# Altium footprint library 接插件.PCBLIB: 113 footprints (part 2 of 8)
Each footprint in its own frame and in the unit in brackets; x right, y up, seen from the top. Pads: shape width x height; smd on the part's side, far side on the other; paste and mask are expansions set on the pad; w line width, h text height; cw(c..) or ccw(c..) is an arc to the next point about the centre after c.
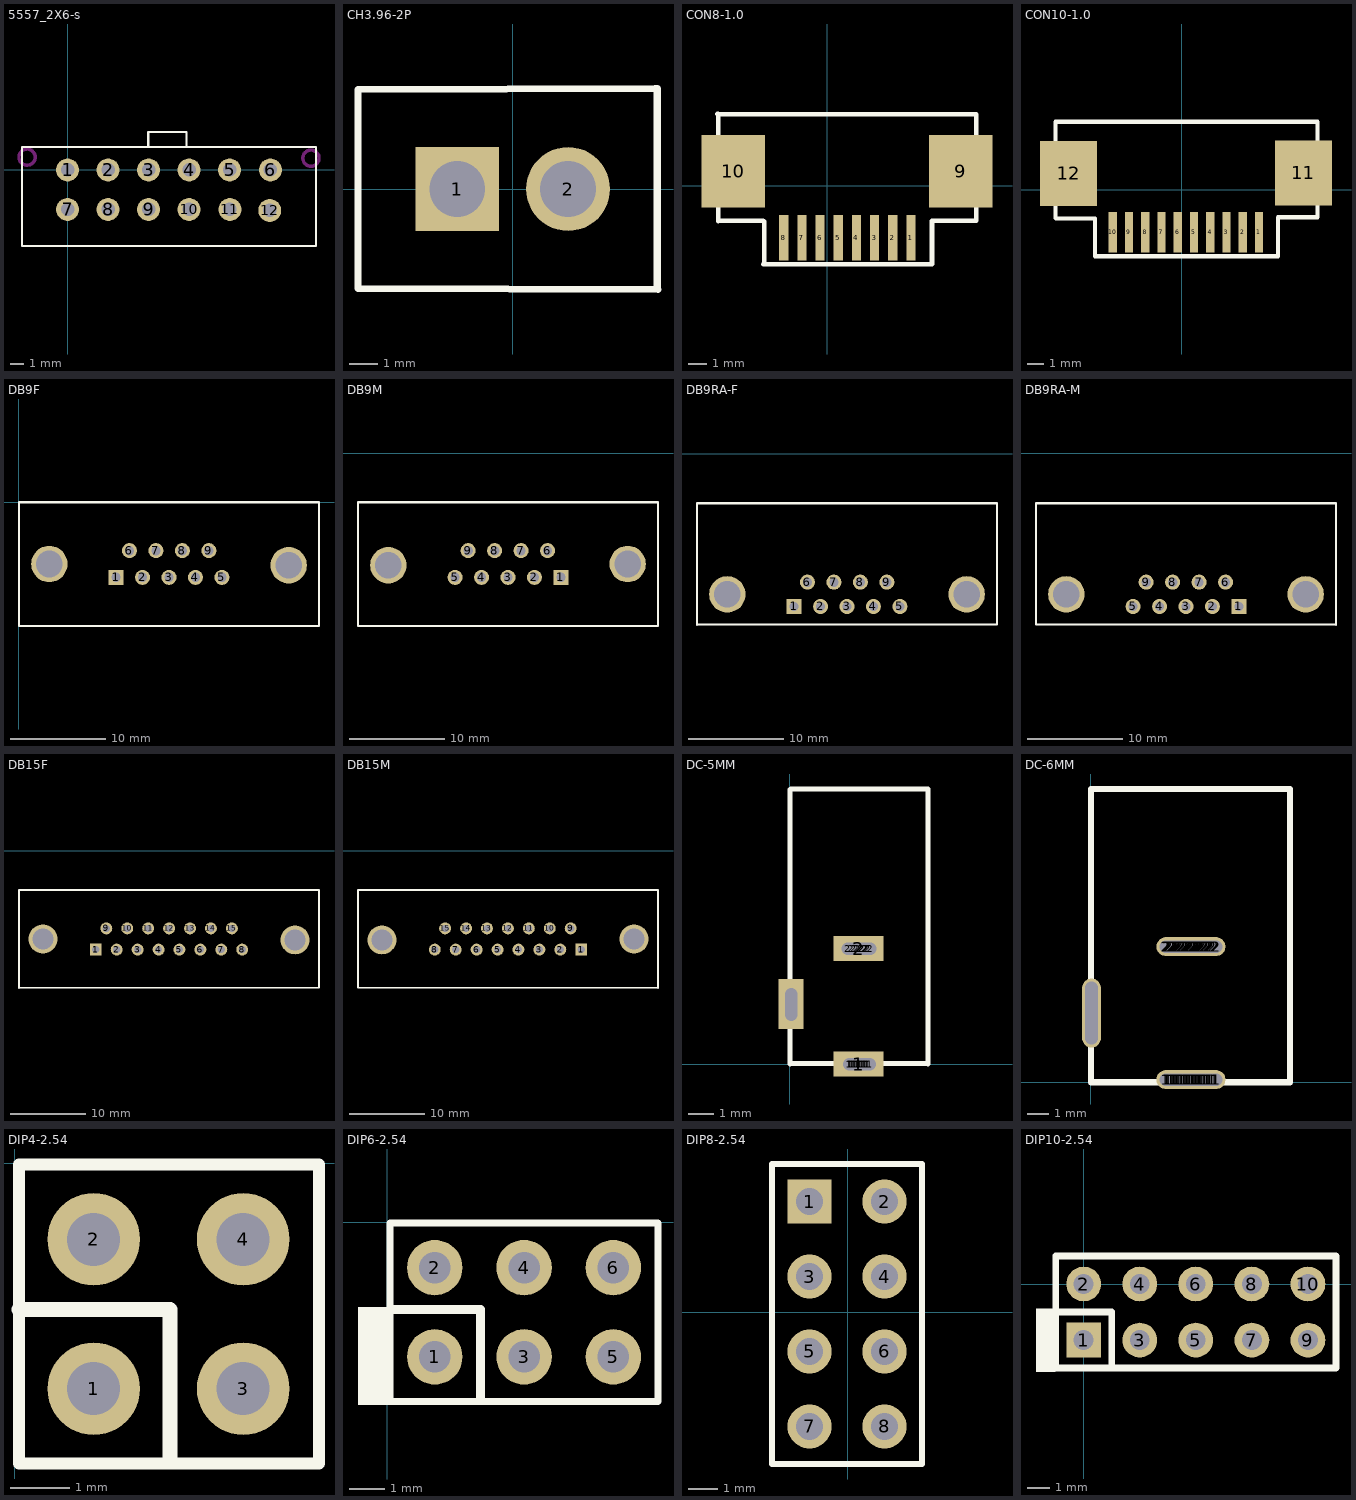
[diagram p1: the footprints below, top view; thin cyan lines are the x and y axes]

## 5557_2X6-s [mm]
pads (12):
  round 1.7 hole 1: 1(0,0) 2(3,0) 3(6,0) 4(9,0) 5(12,0) 6(15.025,0) 7(0,-2.925) 8(3,-2.925) 9(6,-2.925) 10(9,-2.925) 11(12.025,-2.925) 12(14.975,-3)
TopOverlay:
  lines w0.15: -3.375,1.7 -3.375,-5.65 18.4,-5.65 18.4,1.7 -3.365,1.7 ; 5.975,1.75 5.975,2.825 8.825,2.825 8.825,1.725
KeepOutLayer:
  circle w0.254: c-3,0.95 r0.6
  circle w0.254: c18.025,0.875 r0.6

## CH3.96-2P [mm]
pads (2):
  rect 3x3 hole 2: 1(-1.98,0)
  round 3 hole 2: 2(1.98,0)
TopOverlay:
  lines w0.254: -5.529,-3.549 -5.529,3.563 ; -5.479,-3.562 5.196,-3.587 ; -5.479,3.563 5.096,3.588 ; 5.171,-3.524 5.171,3.588

## CON8-1.0 [mm]
pads (10):
  rect 0.5x2.5 smd: 1(4.601,-2.851) 2(3.601,-2.851) 3(2.601,-2.851) 4(1.601,-2.851) 5(0.601,-2.851) 6(-0.399,-2.851) 7(-1.399,-2.851) 8(-2.399,-2.851)
  rect 3.5x4 smd: 9(7.341,0.8) 10(-5.175,0.8)
TopOverlay:
  lines w0.254: -6.05,3.95 8.201,3.939 ; -6,-1.955 -6,3.975 ; -5.925,-1.925 -3.525,-1.925 ; -3.525,-4.325 5.761,-4.331 5.761,-1.931 8.201,-1.931 8.201,3.919 ; -3.475,-4.3 -3.475,-1.97

## CON10-1.0 [mm]
pads (12):
  rect 0.5x2.5 smd: 1(4.753,-2.611) 2(3.753,-2.611) 3(2.753,-2.611) 4(1.753,-2.611) 5(0.753,-2.611) 6(-0.247,-2.611) 7(-1.247,-2.611) 8(-2.247,-2.611) 9(-3.247,-2.611) 10(-4.247,-2.611)
  rect 3.5x4 smd: 11(7.493,1.04) 12(-6.967,1.01)
TopOverlay:
  lines w0.254: -7.767,4.179 8.353,4.179 ; -7.757,-1.751 -7.757,4.179 ; -7.747,-1.761 -5.347,-1.761 -5.347,-4.091 5.913,-4.091 5.913,-1.691 8.353,-1.691 8.353,4.159

## DB9F [mil]
pads (11):
  rect 62x62 hole 38: 1(401,-310)
  round 62 hole 38: 2(510,-310) 3(619,-310) 4(728,-310) 5(837,-310) 6(456,-200) 7(565,-200) 8(674,-200) 9(783,-200)
  round 150 hole 110: ""(126,-255) ""(1112,-260)
TopOverlay:
  lines w8: 1,-510 1237,-510 1237,0
  lines w10: 1,-510 1,0 1237,0

## DB9M [mil]
pads (11):
  rect 62x62 hole 38: 1(1038,-512)
  round 62 hole 38: 2(929,-512) 3(820,-512) 4(711,-512) 5(602,-512) 6(983,-402) 7(874,-402) 8(765,-402) 9(656,-402)
  round 150 hole 110: ""(327,-462) ""(1313,-457)
TopOverlay:
  lines w8: 202,-202 202,-712 1438,-712
  lines w10: 202,-202 1438,-202 1438,-712

## DB9RA-F [mil]
pads (11):
  rect 62x62 hole 38: 1(603,-629)
  round 62 hole 38: 2(712,-629) 3(821,-629) 4(930,-629) 5(1039,-629) 6(658,-529) 7(767,-529) 8(876,-529) 9(985,-529)
  round 150 hole 110: ""(328,-579) ""(1314,-579)
TopOverlay:
  lines w8: 203,-704 1439,-704 1439,-204
  lines w10: 203,-704 203,-204 1439,-204

## DB9RA-M [mil]
pads (11):
  rect 62x62 hole 38: 1(1037,-632)
  round 62 hole 38: 2(928,-632) 3(819,-632) 4(710,-632) 5(601,-632) 6(982,-532) 7(873,-532) 8(764,-532) 9(655,-532)
  round 150 hole 110: ""(326,-582) ""(1312,-582)
TopOverlay:
  lines w8: 201,-207 201,-707 1437,-707
  lines w10: 201,-207 1437,-207 1437,-707

## DB15F [mil]
pads (17):
  rect 62x62 hole 38: 1(607,-515)
  round 62 hole 38: 2(716,-515) 3(825,-515) 4(934,-515) 5(1043,-515) 6(1152,-515) 7(1261,-515) 8(1370,-515) 9(662,-405) 10(771,-405) 11(880,-405) 12(989,-405) 13(1098,-405) 14(1207,-405) 15(1316,-405)
  round 150 hole 110: ""(332,-460) ""(1645,-465)
TopOverlay:
  lines w8: 207,-715 1770,-715 1770,-205
  lines w10: 207,-715 207,-205 1770,-205

## DB15M [mil]
pads (17):
  rect 62x62 hole 38: 1(1369,-516)
  round 62 hole 38: 2(1260,-516) 3(1151,-516) 4(1042,-516) 5(933,-516) 6(824,-516) 7(715,-516) 8(606,-516) 9(1314,-406) 10(1205,-406) 11(1096,-406) 12(987,-406) 13(878,-406) 14(769,-406) 15(660,-406)
  round 150 hole 110: ""(331,-466) ""(1644,-461)
TopOverlay:
  lines w8: 206,-206 206,-716 1769,-716
  lines w10: 206,-206 1769,-206 1769,-716

## DC-5MM [mm]
pads (49):
  round 0.5 hole 0.5: 1(2.375,0) 1(2.425,0) 1(2.475,0) 1(2.525,0) 1(2.575,0) 1(2.625,0) 1(2.675,0) 1(2.725,0) 1(2.775,0) 1(2.825,0) 1(2.875,0) 1(2.925,0) 1(2.975,0) 1(3.025,0) 1(3.075,0) 1(3.125,0) 1(3.2,0) 2(2.325,4.625) 2(2.45,4.625) 2(2.55,4.625) 2(2.65,4.625) 2(2.725,4.625) 2(2.85,4.625) 2(2.875,4.625) 2(3,4.625) 2(3.025,4.625) 2(3.05,4.625) 2(3.125,4.625) 2(3.225,4.625) ""(0.05,1.975) ""(0.05,2.025) ""(0.05,2.075) ""(0.05,2.125) ""(0.05,2.175) ""(0.05,2.225) ""(0.05,2.275) ""(0.05,2.325) ""(0.05,2.375) ""(0.05,2.425) ""(0.05,2.475) ""(0.05,2.525) ""(0.05,2.575) ""(0.05,2.625) ""(0.05,2.675) ""(0.05,2.725) ""(0.05,2.8)
  rect 2x1 hole 0.5: 1(2.75,0) 2(2.75,4.625)
  rect 1x2 hole 0.5: ""(0.05,2.4)
TopOverlay:
  lines w0.2: 0,0 0,11 ; 0.025,0.025 5.5,0.025 ; 0.05,11.025 5.525,11.025 ; 5.525,0 5.525,11

## DC-6MM [mm]
pads (96):
  round 0.9 hole 0.6: 1(3.575,0.125) 1(3.65,0.125) 1(3.725,0.125) 1(3.825,0.125) 1(3.9,0.125) 1(3.975,0.125) 1(4.05,0.125) 1(4.125,0.125) 1(4.2,0.125) 1(4.275,0.125) 1(4.35,0.125) 1(4.45,0.125) 1(4.525,0.125) 1(4.6,0.125) 1(4.675,0.125) 1(4.75,0.125) 1(4.825,0.125) 1(4.875,0.125) 1(4.95,0.125) 1(5.025,0.125) 1(5.1,0.125) 1(5.175,0.125) 1(5.225,0.125) 1(5.3,0.125) 1(5.375,0.125) 1(5.45,0.125) 1(5.55,0.125) 1(5.625,0.125) 1(5.7,0.125) 1(5.8,0.125) 1(5.9,0.125) 1(5.975,0.125) 2(3.575,6.475) 2(3.65,6.475) 2(3.725,6.475) 2(3.825,6.475) 2(3.9,6.475) 2(3.975,6.475) 2(4.05,6.475) 2(4.125,6.475) 2(4.2,6.475) 2(4.275,6.475) 2(4.35,6.475) 2(4.45,6.475) 2(4.525,6.475) 2(4.6,6.475) 2(4.675,6.475) 2(4.75,6.475) 2(4.825,6.475) 2(4.875,6.475) 2(4.95,6.475) 2(5.025,6.475) 2(5.1,6.475) 2(5.175,6.475) 2(5.225,6.475) 2(5.3,6.475) 2(5.375,6.475) 2(5.45,6.475) 2(5.55,6.475) 2(5.625,6.475) 2(5.7,6.475) 2(5.8,6.475) 2(5.9,6.475) 2(5.975,6.475) ""(0.025,2.1) ""(0.025,2.175) ""(0.025,3.275) ""(0.025,3.35) ""(0.025,2.25) ""(0.025,2.35) ""(0.025,2.425) ""(0.025,2.5) ""(0.025,2.575) ""(0.025,2.65) ""(0.025,2.725) ""(0.025,2.8) ""(0.025,2.875) ""(0.025,2.975) ""(0.025,3.05) ""(0.025,3.125) ""(0.025,3.2) ""(0.025,3.4) ""(0.025,3.475) ""(0.025,3.55) ""(0.025,3.625) ""(0.025,3.7) ""(0.025,3.75) ""(0.025,3.825) ""(0.025,3.9) ""(0.025,3.975) ""(0.025,4.075) ""(0.025,4.15) ""(0.025,4.225) ""(0.025,4.325) ""(0.025,4.425) ""(0.025,4.5)
TopOverlay:
  lines w0.3: 9.475,14 0,14 0,0 9.5,0 9.5,14

## DIP4-2.54 [mil]
pads (4):
  round 62 hole 35.43: 1(53,-151) 2(53,-51) 3(153,-151) 4(153,-51)
TopOverlay:
  lines w8: 3,-201 3,-1 203.74,-1 203.74,-201 3,-201
  lines w10: 3,-98 104,-98 104,-200

## DIP6-2.54 [mil]
pads (6):
  round 62 hole 35.43: 1(53,-151) 2(53,-51) 3(153,-151) 4(153,-51) 5(253,-151) 6(253,-51)
TopOverlay:
  rectangle: -33,-205 3,-95
  lines w8: 3,-201 303,-201 303,-1 3,-1 3,-201
  lines w10: 3,-98 104,-98 104,-200

## DIP8-2.54 [mm]
pads (8):
  rect 1.5x1.5 hole 0.9: 1(-1.3,3.75)
  round 1.5 hole 0.9: 2(1.24,3.75) 3(-1.3,1.21) 4(1.24,1.21) 5(-1.3,-1.33) 6(1.24,-1.33) 7(-1.3,-3.87) 8(1.24,-3.87)
TopOverlay:
  lines w0.2: -2.57,-5.14 -2.57,5.02 2.51,5.02 2.51,-5.14 -2.57,-5.14

## DIP10-2.54 [mil]
pads (10):
  rect 62x62 hole 35.43: 1(0,-100)
  round 62 hole 35.43: 2(0,0) 3(100,-100) 4(100,0) 5(200,-100) 6(200,0) 7(300,-100) 8(300,0) 9(400,-100) 10(400,0)
TopOverlay:
  rectangle: -85,-157 -50,-44
  lines w12: -50,-50 50,-50 50,-150 ; -50,-150 -50,50 450,50 450,-150 -50,-150